# EAGLE library part MICRODUINO_PING-MICRDUINO (library MicroArduino-Core)
microduino????
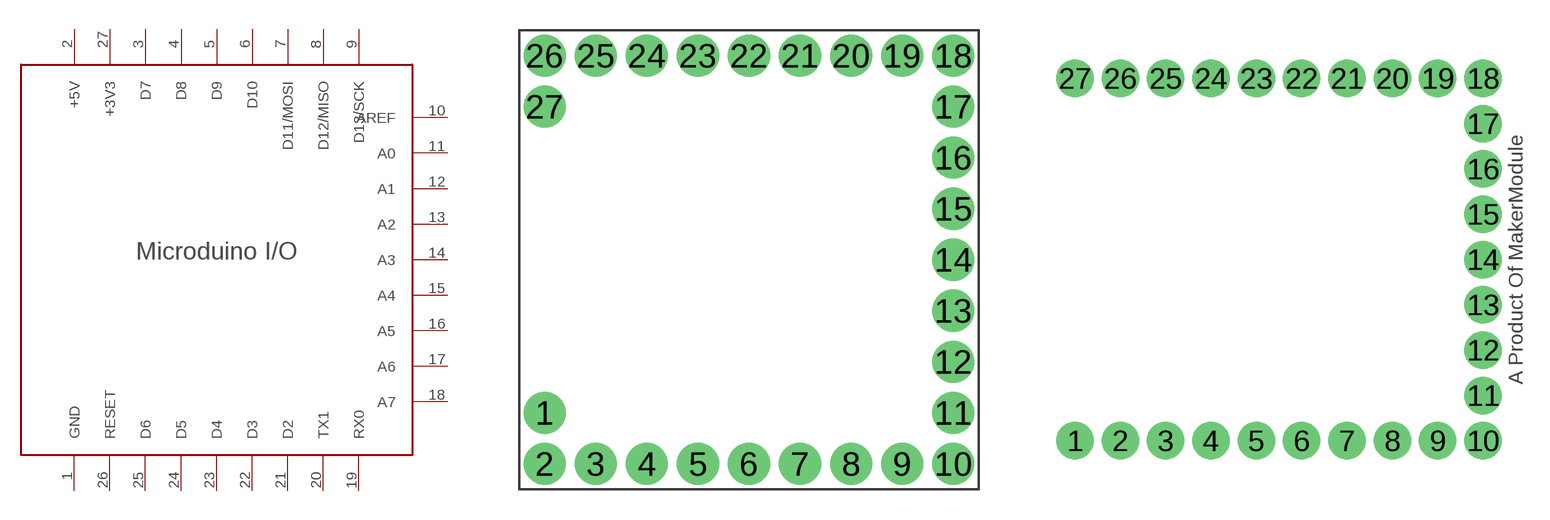
[diagram p0: symbol with the pads of MICRODUINO_PIN-MICRODUINO-0909; footprints MICRODUINO_PIN-MICRODUINO-0909, MICRODUINO_PIN-MICRODUINO-1009]

Designator prefix -

## MICRODUINO_PING-MICRDUINO/0909  [MICRODUINO_PIN-MICRODUINO-0909]
1  GND
2  +5V
3  D7
4  D8
5  D9
6  D10
7  D11/MOSI
8  D12/MISO
9  D13/SCK
10  AREF
11  A0
12  A1
13  A2
14  A3
15  A4
16  A5
17  A6
18  A7
19  RX0
20  TX1
21  D2
22  D3
23  D4
24  D5
25  D6
26  RESET
27  +3V3

## MICRODUINO_PING-MICRDUINO/1009  [MICRODUINO_PIN-MICRODUINO-1009]
1  +5V
2  +3V3
3  D7
4  D8
5  D9
6  D10
7  D11/MOSI
8  D12/MISO
9  D13/SCK
10  AREF
11  A0
12  A1
13  A2
14  A3
15  A4
16  A5
17  A6
18  A7
19  RX0
20  TX1
21  D2
22  D3
23  D4
24  D5
25  D6
26  RESET
27  GND

## MICRODUINO_PING-MICRDUINO/1009+  [MICRODUINO_PIN-MICRODUINO-1009+]
Pads as for MICRODUINO_PIN-MICRODUINO-1009

## MICRODUINO_PING-MICRDUINO/1009-TEST  [MICRODUINO_PIN-MICRODUINO-1009-TEST]
Pads as for MICRODUINO_PIN-MICRODUINO-1009

## Footprint MICRODUINO_PIN-MICRODUINO-0909 (pad centres in mm)
drill 1.4: 1 1.27,3.81; 2 1.27,1.27; 3 3.81,1.27; 4 6.35,1.27; 5 8.89,1.27; 6 11.43,1.27; 7 13.97,1.27; 8 16.51,1.27; 9 19.05,1.27; 10 21.59,1.27; 11 21.59,3.81; 12 21.59,6.35; 13 21.59,8.89; 14 21.59,11.43; 15 21.59,13.97; 16 21.59,16.51; 17 21.59,19.05; 18 21.59,21.59; 19 19.05,21.59; 20 16.51,21.59; 21 13.97,21.59; 22 11.43,21.59; 23 8.89,21.59; 24 6.35,21.59; 25 3.81,21.59; 26 1.27,21.59; 27 1.27,19.05

## Footprint MICRODUINO_PIN-MICRODUINO-1009 (pad centres in mm)
drill 1.4: 1 0,-10.16; 2 2.54,-10.16; 3 5.08,-10.16; 4 7.62,-10.16; 5 10.16,-10.16; 6 12.7,-10.16; 7 15.24,-10.16; 8 17.78,-10.16; 9 20.32,-10.16; 10 22.86,-10.16; 11 22.86,-7.62; 12 22.86,-5.08; 13 22.86,-2.54; 14 22.86,0; 15 22.86,2.54; 16 22.86,5.08; 17 22.86,7.62; 18 22.86,10.16; 19 20.32,10.16; 20 17.78,10.16; 21 15.24,10.16; 22 12.7,10.16; 23 10.16,10.16; 24 7.62,10.16; 25 5.08,10.16; 26 2.54,10.16; 27 0,10.16

## Footprint MICRODUINO_PIN-MICRODUINO-1009+ (pad centres in mm)
drill 1.4: 1 2.54,2.54; 2 5.08,2.54; 3 7.62,2.54; 4 10.16,2.54; 5 12.7,2.54; 6 15.24,2.54; 7 17.78,2.54; 8 20.32,2.54; 9 22.86,2.54; 10 25.4,2.54; 11 25.4,5.08; 12 25.4,7.62; 13 25.4,10.16; 14 25.4,12.7; 15 25.4,15.24; 16 25.4,17.78; 17 25.4,20.32; 18 25.4,22.86; 19 22.86,22.86; 20 20.32,22.86; 21 17.78,22.86; 22 15.24,22.86; 23 12.7,22.86; 24 10.16,22.86; 25 7.62,22.86; 26 5.08,22.86; 27 2.54,22.86

## Footprint MICRODUINO_PIN-MICRODUINO-1009-TEST (pad centres in mm)
drill 1.4: 1 2.54,-10.16; 2 5.08,-10.16; 3 7.62,-10.16; 4 10.16,-10.16; 5 12.7,-10.16; 6 15.24,-10.16; 7 17.78,-10.16; 8 20.32,-10.16; 9 22.86,-10.16; 10 25.4,-10.16; 11 25.4,-7.62; 12 25.4,-5.08; 13 25.4,-2.54; 14 25.4,0; 15 25.4,2.54; 16 25.4,5.08; 17 25.4,7.62; 18 25.4,10.16; 19 22.86,10.16; 20 20.32,10.16; 21 17.78,10.16; 22 15.24,10.16; 23 12.7,10.16; 24 10.16,10.16; 25 7.62,10.16; 26 5.08,10.16; 27 2.54,10.16